# Altium schematic symbol library CPU_NXP_6800.SchLib: 12 symbols
Pins are listed as number, name and electrical type; pins without a type are passive.

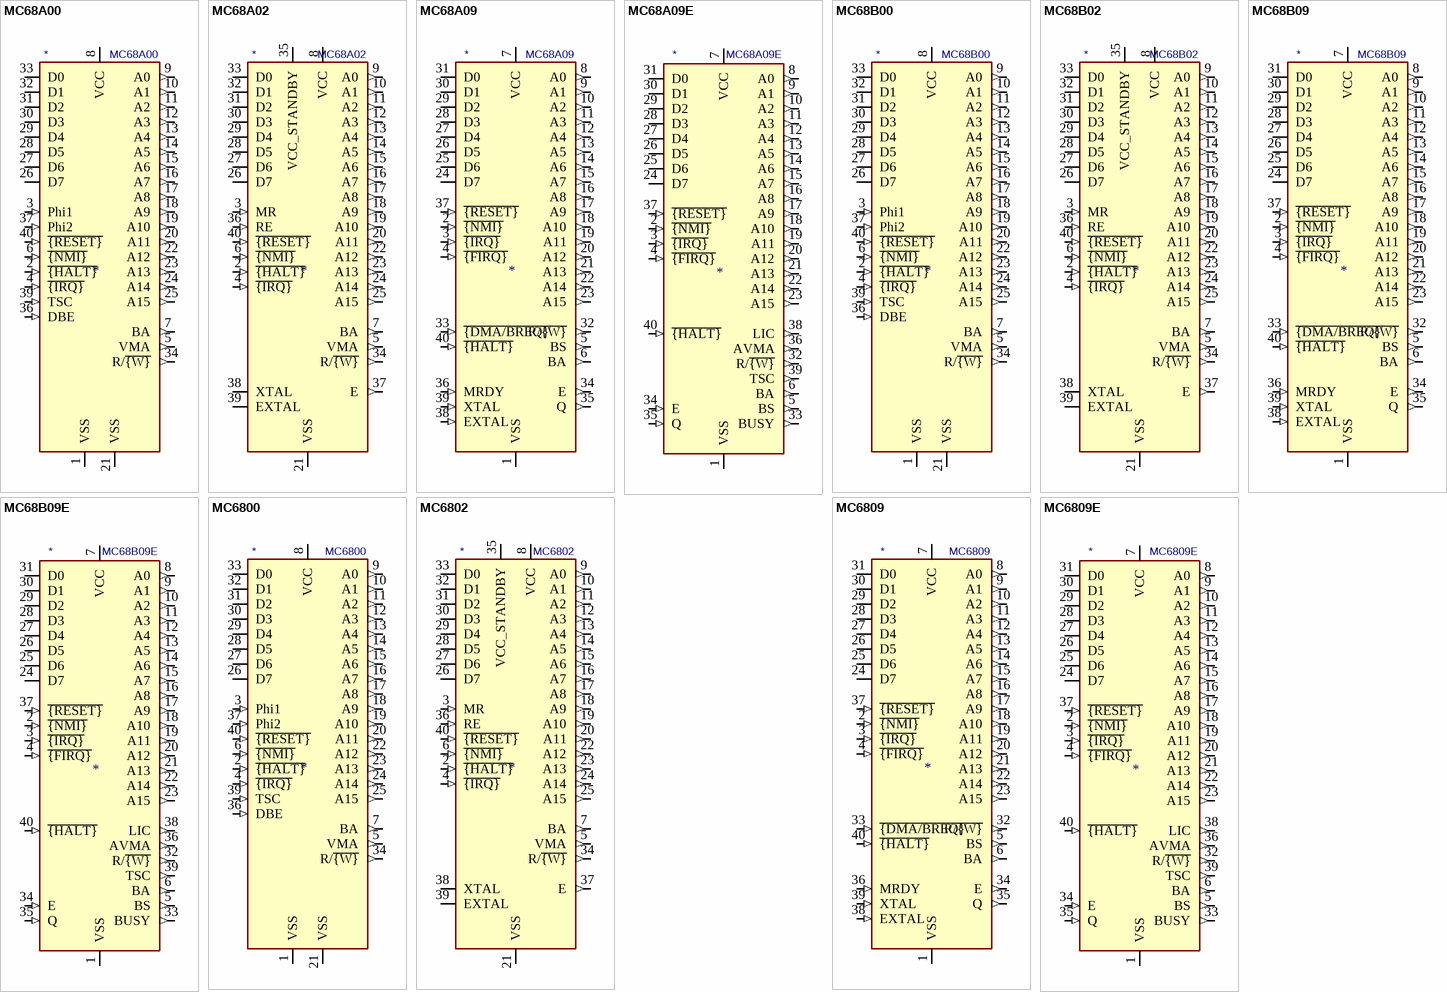
[diagram p0: symbols MC68A00 to MC6809E]

## MC68A00
designator *  value MC68A00
ki_keywords: MCU; ki_description: 8-Bit Microprocessing unit 1.5MHz, DIP-40; ki_fp_filters: DIP*W15.24mm*; Footprint: Package_DIP:DIP-40_W15.24mm; Supplier: http://pdf.datasheetcatalog.com/datasheet/motorola/MC68A00L.pdf
footprint DIP-40_W15.24mm
pins: 1 VSS (power), 2 ~{{HALT}} (in), 3 Phi1 (in), 4 ~{{IRQ}} (in), 5 VMA (out), 6 ~{{NMI}} (in), 7 BA (out), 8 VCC (power), 9 A0 (out), 10 A1 (out), 11 A2 (out), 12 A3 (out), 13 A4 (out), 14 A5 (out), 15 A6 (out), 16 A7 (out), 17 A8 (out), 18 A9 (out), 19 A10 (out), 20 A11 (out), 21 VSS (power), 22 A12 (out), 23 A13 (out), 24 A14 (out), 25 A15 (out), 26 D7 (io), 27 D6 (io), 28 D5 (io), 29 D4 (io), 30 D3 (io), 31 D2 (io), 32 D1 (io), 33 D0 (io), 34 R/~{{W}} (out), 35 N.C. (in) hidden, 36 DBE (in), 37 Phi2 (in), 38 N.C. (in) hidden, 39 TSC (in), 40 ~{{RESET}} (in)

## MC68A02
designator *  value MC68A02
ki_keywords: MCU; ki_description: 8-Bit Microprocessing unit 1.5MHz, DIP-40; ki_fp_filters: DIP*W15.24mm*; Footprint: Package_DIP:DIP-40_W15.24mm; Supplier: https://www.jameco.com/Jameco/Products/ProdDS/43502.pdf
footprint DIP-40_W15.24mm
pins: 1 VSS hidden, 2 ~{{HALT}} (in), 3 MR (in), 4 ~{{IRQ}} (in), 5 VMA (out), 6 ~{{NMI}} (in), 7 BA (out), 8 VCC (power), 9 A0 (out), 10 A1 (out), 11 A2 (out), 12 A3 (out), 13 A4 (out), 14 A5 (out), 15 A6 (out), 16 A7 (out), 17 A8 (out), 18 A9 (out), 19 A10 (out), 20 A11 (out), 21 VSS (power), 22 A12 (out), 23 A13 (out), 24 A14 (out), 25 A15 (out), 26 D7 (io), 27 D6 (io), 28 D5 (io), 29 D4 (io), 30 D3 (io), 31 D2 (io), 32 D1 (io), 33 D0 (io), 34 R/~{{W}} (out), 35 VCC_STANDBY (power), 36 RE (in), 37 E (out), 38 XTAL, 39 EXTAL, 40 ~{{RESET}} (in)

## MC68A09
designator *  value MC68A09
ki_keywords: MCU; ki_description: 8-Bit Microprocessing unit 1.5MHz, DIP-40; ki_fp_filters: DIP*W15.24mm*; Footprint: Package_DIP:DIP-40_W15.24mm; Supplier: http://pdf.datasheetcatalog.com/datasheet/motorola/MC68B09S.pdf
footprint DIP-40_W15.24mm
pins: 1 VSS (power), 2 ~{{NMI}} (in), 3 ~{{IRQ}} (in), 4 ~{{FIRQ}} (in), 5 BS (out), 6 BA (out), 7 VCC (power), 8 A0 (out), 9 A1 (out), 10 A2 (out), 11 A3 (out), 12 A4 (out), 13 A5 (out), 14 A6 (out), 15 A7 (out), 16 A8 (out), 17 A9 (out), 18 A10 (out), 19 A11 (out), 20 A12 (out), 21 A13 (out), 22 A14 (out), 23 A15 (out), 24 D7 (io), 25 D6 (io), 26 D5 (io), 27 D4 (io), 28 D3 (io), 29 D2 (io), 30 D1 (io), 31 D0 (io), 32 R/~{{W}} (out), 33 ~{{DMA/BREQ}} (in), 34 E (out), 35 Q (out), 36 MRDY (in), 37 ~{{RESET}} (in), 38 EXTAL (in), 39 XTAL (in), 40 ~{{HALT}} (in)

## MC68A09E
designator *  value MC68A09E
ki_keywords: MCU; ki_description: 8-Bit Microprocessing unit 1.5MHz, DIP-40; ki_fp_filters: DIP*W15.24mm*; Footprint: Package_DIP:DIP-40_W15.24mm; Supplier: http://pdf.datasheetcatalog.com/datasheet/motorola/MC68B09S.pdf
footprint DIP-40_W15.24mm
pins: 1 VSS (power), 2 ~{{NMI}} (in), 3 ~{{IRQ}} (in), 4 ~{{FIRQ}} (in), 5 BS (out), 6 BA (out), 7 VCC (power), 8 A0 (out), 9 A1 (out), 10 A2 (out), 11 A3 (out), 12 A4 (out), 13 A5 (out), 14 A6 (out), 15 A7 (out), 16 A8 (out), 17 A9 (out), 18 A10 (out), 19 A11 (out), 20 A12 (out), 21 A13 (out), 22 A14 (out), 23 A15 (out), 24 D7 (io), 25 D6 (io), 26 D5 (io), 27 D4 (io), 28 D3 (io), 29 D2 (io), 30 D1 (io), 31 D0 (io), 32 R/~{{W}} (out), 33 BUSY (out), 34 E (in), 35 Q (in), 36 AVMA (out), 37 ~{{RESET}} (in), 38 LIC (out), 39 TSC (out), 40 ~{{HALT}} (in)

## MC68B00
designator *  value MC68B00
ki_keywords: MCU; ki_description: 8-Bit Microprocessing unit 2.0MHz, DIP-40; ki_fp_filters: DIP*W15.24mm*; Footprint: Package_DIP:DIP-40_W15.24mm; Supplier: http://pdf.datasheetcatalog.com/datasheet/motorola/MC68A00L.pdf
footprint DIP-40_W15.24mm
pins: 1 VSS (power), 2 ~{{HALT}} (in), 3 Phi1 (in), 4 ~{{IRQ}} (in), 5 VMA (out), 6 ~{{NMI}} (in), 7 BA (out), 8 VCC (power), 9 A0 (out), 10 A1 (out), 11 A2 (out), 12 A3 (out), 13 A4 (out), 14 A5 (out), 15 A6 (out), 16 A7 (out), 17 A8 (out), 18 A9 (out), 19 A10 (out), 20 A11 (out), 21 VSS (power), 22 A12 (out), 23 A13 (out), 24 A14 (out), 25 A15 (out), 26 D7 (io), 27 D6 (io), 28 D5 (io), 29 D4 (io), 30 D3 (io), 31 D2 (io), 32 D1 (io), 33 D0 (io), 34 R/~{{W}} (out), 35 N.C. (in) hidden, 36 DBE (in), 37 Phi2 (in), 38 N.C. (in) hidden, 39 TSC (in), 40 ~{{RESET}} (in)

## MC68B02
designator *  value MC68B02
ki_keywords: MCU; ki_description: 8-Bit Microprocessing unit 2.0MHz, DIP-40; ki_fp_filters: DIP*W15.24mm*; Footprint: Package_DIP:DIP-40_W15.24mm; Supplier: https://www.jameco.com/Jameco/Products/ProdDS/43502.pdf
footprint DIP-40_W15.24mm
pins: 1 VSS hidden, 2 ~{{HALT}} (in), 3 MR (in), 4 ~{{IRQ}} (in), 5 VMA (out), 6 ~{{NMI}} (in), 7 BA (out), 8 VCC (power), 9 A0 (out), 10 A1 (out), 11 A2 (out), 12 A3 (out), 13 A4 (out), 14 A5 (out), 15 A6 (out), 16 A7 (out), 17 A8 (out), 18 A9 (out), 19 A10 (out), 20 A11 (out), 21 VSS (power), 22 A12 (out), 23 A13 (out), 24 A14 (out), 25 A15 (out), 26 D7 (io), 27 D6 (io), 28 D5 (io), 29 D4 (io), 30 D3 (io), 31 D2 (io), 32 D1 (io), 33 D0 (io), 34 R/~{{W}} (out), 35 VCC_STANDBY (power), 36 RE (in), 37 E (out), 38 XTAL, 39 EXTAL, 40 ~{{RESET}} (in)

## MC68B09
designator *  value MC68B09
ki_keywords: MCU; ki_description: 8-Bit Microprocessing unit 2.0MHz, DIP-40; ki_fp_filters: DIP*W15.24mm*; Footprint: Package_DIP:DIP-40_W15.24mm; Supplier: http://pdf.datasheetcatalog.com/datasheet/motorola/MC68B09S.pdf
footprint DIP-40_W15.24mm
pins: 1 VSS (power), 2 ~{{NMI}} (in), 3 ~{{IRQ}} (in), 4 ~{{FIRQ}} (in), 5 BS (out), 6 BA (out), 7 VCC (power), 8 A0 (out), 9 A1 (out), 10 A2 (out), 11 A3 (out), 12 A4 (out), 13 A5 (out), 14 A6 (out), 15 A7 (out), 16 A8 (out), 17 A9 (out), 18 A10 (out), 19 A11 (out), 20 A12 (out), 21 A13 (out), 22 A14 (out), 23 A15 (out), 24 D7 (io), 25 D6 (io), 26 D5 (io), 27 D4 (io), 28 D3 (io), 29 D2 (io), 30 D1 (io), 31 D0 (io), 32 R/~{{W}} (out), 33 ~{{DMA/BREQ}} (in), 34 E (out), 35 Q (out), 36 MRDY (in), 37 ~{{RESET}} (in), 38 EXTAL (in), 39 XTAL (in), 40 ~{{HALT}} (in)

## MC68B09E
designator *  value MC68B09E
ki_keywords: MCU; ki_description: 8-Bit Microprocessing unit 2.0MHz, DIP-40; ki_fp_filters: DIP*W15.24mm*; Footprint: Package_DIP:DIP-40_W15.24mm; Supplier: http://pdf.datasheetcatalog.com/datasheet/motorola/MC68B09S.pdf
footprint DIP-40_W15.24mm
pins: 1 VSS (power), 2 ~{{NMI}} (in), 3 ~{{IRQ}} (in), 4 ~{{FIRQ}} (in), 5 BS (out), 6 BA (out), 7 VCC (power), 8 A0 (out), 9 A1 (out), 10 A2 (out), 11 A3 (out), 12 A4 (out), 13 A5 (out), 14 A6 (out), 15 A7 (out), 16 A8 (out), 17 A9 (out), 18 A10 (out), 19 A11 (out), 20 A12 (out), 21 A13 (out), 22 A14 (out), 23 A15 (out), 24 D7 (io), 25 D6 (io), 26 D5 (io), 27 D4 (io), 28 D3 (io), 29 D2 (io), 30 D1 (io), 31 D0 (io), 32 R/~{{W}} (out), 33 BUSY (out), 34 E (in), 35 Q (in), 36 AVMA (out), 37 ~{{RESET}} (in), 38 LIC (out), 39 TSC (out), 40 ~{{HALT}} (in)

## MC6800
designator *  value MC6800
ki_keywords: MCU; ki_description: 8-Bit Microprocessing unit 1.0MHz, DIP-40; ki_fp_filters: DIP*W15.24mm*; Footprint: Package_DIP:DIP-40_W15.24mm; Supplier: http://pdf.datasheetcatalog.com/datasheet/motorola/MC68A00L.pdf
footprint DIP-40_W15.24mm
pins: 1 VSS (power), 2 ~{{HALT}} (in), 3 Phi1 (in), 4 ~{{IRQ}} (in), 5 VMA (out), 6 ~{{NMI}} (in), 7 BA (out), 8 VCC (power), 9 A0 (out), 10 A1 (out), 11 A2 (out), 12 A3 (out), 13 A4 (out), 14 A5 (out), 15 A6 (out), 16 A7 (out), 17 A8 (out), 18 A9 (out), 19 A10 (out), 20 A11 (out), 21 VSS (power), 22 A12 (out), 23 A13 (out), 24 A14 (out), 25 A15 (out), 26 D7 (io), 27 D6 (io), 28 D5 (io), 29 D4 (io), 30 D3 (io), 31 D2 (io), 32 D1 (io), 33 D0 (io), 34 R/~{{W}} (out), 35 N.C. (in) hidden, 36 DBE (in), 37 Phi2 (in), 38 N.C. (in) hidden, 39 TSC (in), 40 ~{{RESET}} (in)

## MC6802
designator *  value MC6802
ki_keywords: MCU; ki_description: 8-Bit Microprocessing unit 1.0MHz, DIP-40; ki_fp_filters: DIP*W15.24mm*; Footprint: Package_DIP:DIP-40_W15.24mm; Supplier: https://www.jameco.com/Jameco/Products/ProdDS/43502.pdf
footprint DIP-40_W15.24mm
pins: 1 VSS hidden, 2 ~{{HALT}} (in), 3 MR (in), 4 ~{{IRQ}} (in), 5 VMA (out), 6 ~{{NMI}} (in), 7 BA (out), 8 VCC (power), 9 A0 (out), 10 A1 (out), 11 A2 (out), 12 A3 (out), 13 A4 (out), 14 A5 (out), 15 A6 (out), 16 A7 (out), 17 A8 (out), 18 A9 (out), 19 A10 (out), 20 A11 (out), 21 VSS (power), 22 A12 (out), 23 A13 (out), 24 A14 (out), 25 A15 (out), 26 D7 (io), 27 D6 (io), 28 D5 (io), 29 D4 (io), 30 D3 (io), 31 D2 (io), 32 D1 (io), 33 D0 (io), 34 R/~{{W}} (out), 35 VCC_STANDBY (power), 36 RE (in), 37 E (out), 38 XTAL, 39 EXTAL, 40 ~{{RESET}} (in)

## MC6809
designator *  value MC6809
ki_keywords: MCU; ki_description: 8-Bit Microprocessing unit 1.0MHz, DIP-40; ki_fp_filters: DIP*W15.24mm*; Footprint: Package_DIP:DIP-40_W15.24mm; Supplier: http://pdf.datasheetcatalog.com/datasheet/motorola/MC68B09S.pdf
footprint DIP-40_W15.24mm
pins: 1 VSS (power), 2 ~{{NMI}} (in), 3 ~{{IRQ}} (in), 4 ~{{FIRQ}} (in), 5 BS (out), 6 BA (out), 7 VCC (power), 8 A0 (out), 9 A1 (out), 10 A2 (out), 11 A3 (out), 12 A4 (out), 13 A5 (out), 14 A6 (out), 15 A7 (out), 16 A8 (out), 17 A9 (out), 18 A10 (out), 19 A11 (out), 20 A12 (out), 21 A13 (out), 22 A14 (out), 23 A15 (out), 24 D7 (io), 25 D6 (io), 26 D5 (io), 27 D4 (io), 28 D3 (io), 29 D2 (io), 30 D1 (io), 31 D0 (io), 32 R/~{{W}} (out), 33 ~{{DMA/BREQ}} (in), 34 E (out), 35 Q (out), 36 MRDY (in), 37 ~{{RESET}} (in), 38 EXTAL (in), 39 XTAL (in), 40 ~{{HALT}} (in)

## MC6809E
designator *  value MC6809E
ki_keywords: MCU; ki_description: 8-Bit Microprocessing unit 1.0MHz, DIP-40; ki_fp_filters: DIP*W15.24mm*; Footprint: Package_DIP:DIP-40_W15.24mm; Supplier: http://pdf.datasheetcatalog.com/datasheet/motorola/MC68B09S.pdf
footprint DIP-40_W15.24mm
pins: 1 VSS (power), 2 ~{{NMI}} (in), 3 ~{{IRQ}} (in), 4 ~{{FIRQ}} (in), 5 BS (out), 6 BA (out), 7 VCC (power), 8 A0 (out), 9 A1 (out), 10 A2 (out), 11 A3 (out), 12 A4 (out), 13 A5 (out), 14 A6 (out), 15 A7 (out), 16 A8 (out), 17 A9 (out), 18 A10 (out), 19 A11 (out), 20 A12 (out), 21 A13 (out), 22 A14 (out), 23 A15 (out), 24 D7 (io), 25 D6 (io), 26 D5 (io), 27 D4 (io), 28 D3 (io), 29 D2 (io), 30 D1 (io), 31 D0 (io), 32 R/~{{W}} (out), 33 BUSY (out), 34 E (in), 35 Q (in), 36 AVMA (out), 37 ~{{RESET}} (in), 38 LIC (out), 39 TSC (out), 40 ~{{HALT}} (in)